# Altium schematic symbol library Erick.SchLib: 29 symbols
Pins are listed as number, name and electrical type; pins without a type are passive.

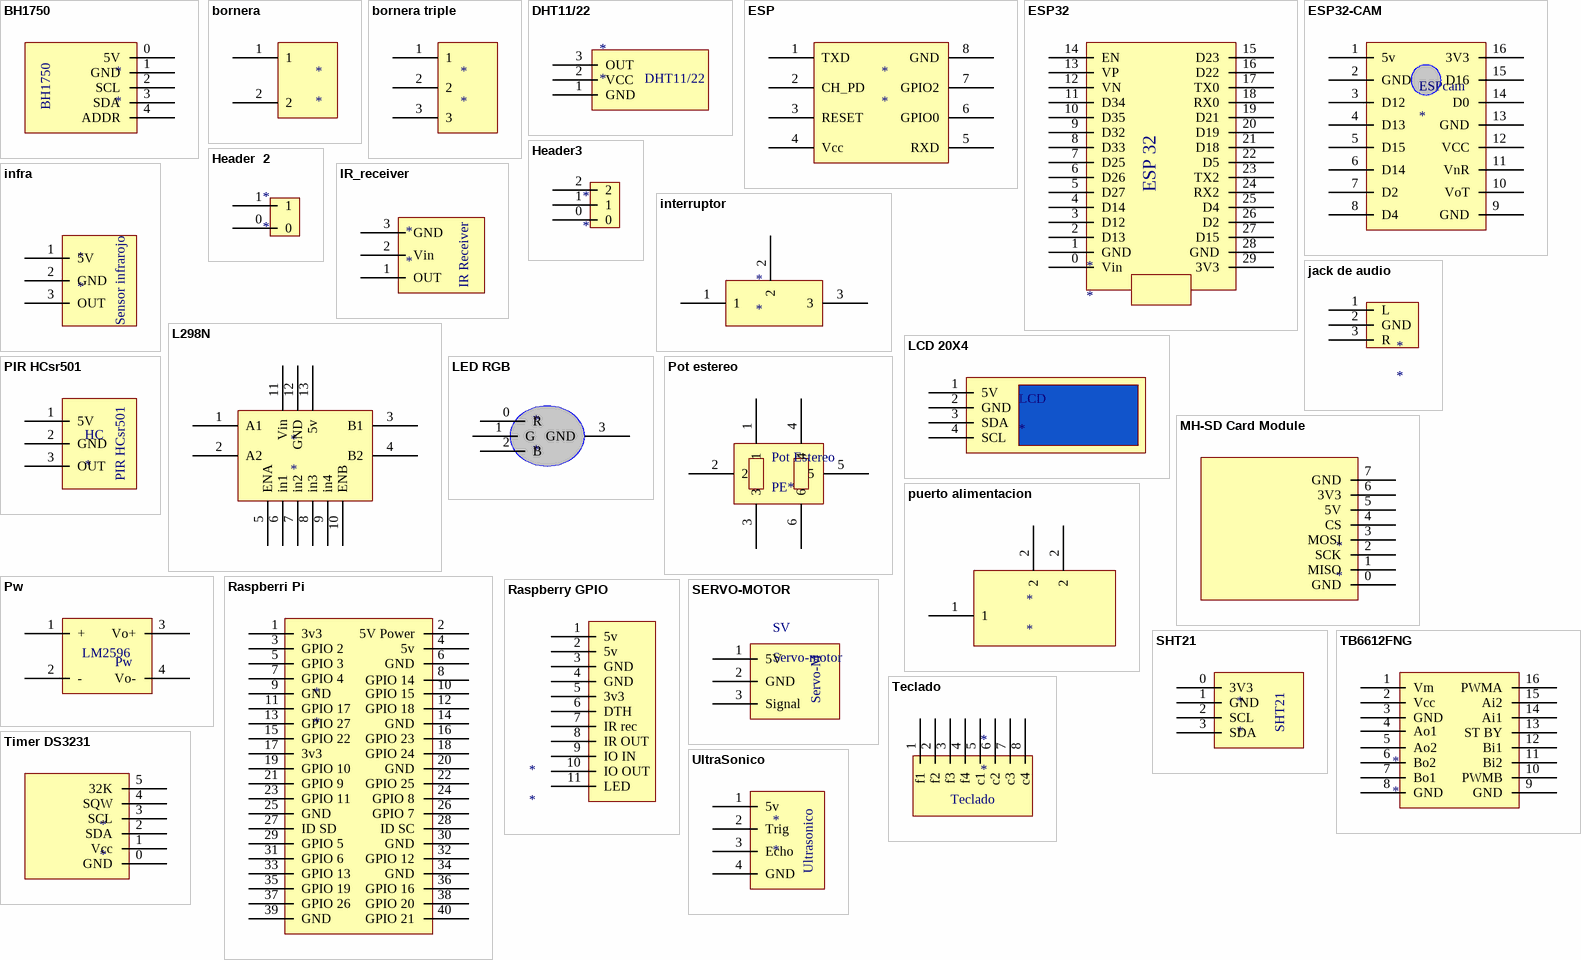
[diagram p0: symbols BH1750 to UltraSonico]

## BH1750
designator *
footprint BH1750
pins: 0 5V, 1 GND, 2 SCL, 3 SDA, 4 ADDR

## bornera
designator *
footprint bornera chica
pins: 1, 2

## bornera triple
designator *
pins: 1, 2, 3

## DHT11/22
designator *
pins: 1 GND, 2 VCC, 3 OUT

## ESP
designator *
pins: 1 TXD, 2 CH_PD, 3 RESET, 4 Vcc, 5 RXD, 6 GPIO0, 7 GPIO2, 8 GND

## ESP32
designator *
footprint ESP32
pins: 0 Vin, 1 GND, 2 D13, 3 D12, 4 D14, 5 D27, 6 D26, 7 D25, 8 D33, 9 D32, 10 D35, 11 D34, 12 VN, 13 VP, 14 EN, 15 D23, 16 D22, 17 TX0, 18 RX0, 19 D21, 20 D19, 21 D18, 22 D5, 23 TX2, 24 RX2, 25 D4, 26 D2, 27 D15, 28 GND, 29 3V3
text: ESP 32

## ESP32-CAM
designator ESPcam
pins: 1 5v, 2 GND, 3 D12, 4 D13, 5 D15, 6 D14, 7 D2, 8 D4, 9 GND, 10 VoT, 11 VnR, 12 VCC, 13 GND, 14 D0, 15 D16, 16 3V3

## Header3
designator *
pins: 0, 1, 2

## Header  2
designator *
pins: 0, 1

## infra
designator *
pins: 1 5V, 2 GND, 3 OUT
text: Sensor infrarojo

## interruptor
designator *
pins: 1, 2, 3

## IR_receiver
designator *
pins: 1 OUT, 2 Vin, 3 GND
text: IR Receiver

## jack de audio
designator *
pins: 1 L, 2 GND, 3 R

## L298N
designator *
pins: 1 A1, 2 A2, 3 B1, 4 B2, 5 ENA, 6 in1, 7 in2, 8 in3, 9 in4, 10 ENB, 11 Vin, 12 GND, 13 5v

## LCD 20X4
designator LCD
pins: 1 5V, 2 GND, 3 SDA, 4 SCL

## LED RGB
designator *
footprint LED RGB
pins: 0 R, 1 G, 2 B, 3 GND

## MH-SD Card Module
designator *
footprint MH-SD Card Module
pins: 0 GND, 1 MISO, 2 SCK, 3 MOSI, 4 CS, 5 5V, 6 3V3, 7 GND

## PIR HCsr501
designator HC
pins: 1 5V, 2 GND, 3 OUT

## Pot estereo
designator Pot Estereo, comment PE*
pins: 1, 2, 3, 4, 5, 6

## puerto alimentacion
designator *
footprint puerto alimentacion
pins: 1, 2, 2

## Pw
designator Pw
pins: 1 +, 2 -, 3 Vo+, 4 Vo-
text: LM2596

## Raspberri Pi
designator *
pins: 1 3v3, 2 5V Power, 3 GPIO 2, 4 5v, 5 GPIO 3, 6 GND, 7 GPIO 4, 8 GPIO 14, 9 GND, 10 GPIO 15, 11 GPIO 17, 12 GPIO 18, 13 GPIO 27, 14 GND, 15 GPIO 22, 16 GPIO 23, 17 3v3, 18 GPIO 24, 19 GPIO 10, 20 GND, 21 GPIO 9, 22 GPIO 25, 23 GPIO 11, 24 GPIO 8, 25 GND, 26 GPIO 7, 27 ID SD, 28 ID SC, 29 GPIO 5, 30 GND, 31 GPIO 6, 32 GPIO 12, 33 GPIO 13, 34 GND, 35 GPIO 19, 36 GPIO 16, 37 GPIO 26, 38 GPIO 20, 39 GND, 40 GPIO 21

## Raspberry GPIO
designator *
pins: 1 5v, 2 5v, 3 GND, 4 GND, 5 3v3, 6 DTH, 7 IR rec, 8 IR OUT, 9 IO IN, 10 IO OUT, 11 LED

## SERVO-MOTOR
designator SV, comment Servo-motor
pins: 1 5V, 2 GND, 3 Signal
text: Servo-M

## SHT21
designator *
footprint STH21
pins: 0 3V3, 1 GND, 2 SCL, 3 SDA

## TB6612FNG
designator *
pins: 1 Vm, 2 Vcc, 3 GND, 4 Ao1, 5 Ao2, 6 Bo2, 7 Bo1, 8 GND, 9 GND, 10 PWMB, 11 Bi2, 12 Bi1, 13 ST BY, 14 Ai1, 15 Ai2, 16 PWMA

## Teclado
designator *
pins: 1 f1, 2 f2, 3 f3, 4 f4, 5 c1, 6 c2, 7 c3, 8 c4

## Timer DS3231
designator *
footprint Timer DS3231
pins: 0 GND, 1 Vcc, 2 SDA, 3 SCL, 4 SQW, 5 32K

## UltraSonico
designator *
pins: 1 5v, 2 Trig, 3 Echo, 4 GND
text: Ultrasonico